# Altium schematic symbol library IRF7389TRPBF.Schlib: 1 symbol
Pins are listed as number, name and electrical type; pins without a type are passive.

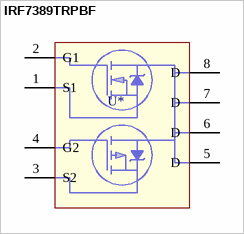
[diagram p0: symbol IRF7389TRPBF]

## IRF7389TRPBF
designator U*
N-Channel&P-Channel 30V 1V @ 250uA 29mΩ @ 5.8A,10V 2.5W SOIC-8_150mil MOSFET RoHS; ComponentLink1Description: LCSC - Infineon Technologies IRF7389TRPBF; ComponentLink1URL: https://lcsc.com/product-detail/MOSFET_Infineon-Technologies-IRF7389TRPBF_C71478.html/?href=jlc-SMT; LCSC Part #: C71478; JLCPCB Part Type: Extended
footprint SOIC127P600X175-8N
pins: 1 S1, 2 G1, 3 S2, 4 G2, 5 D, 6 D, 7 D, 8 D